# EAGLE library part MCP19119 (library Microchip)
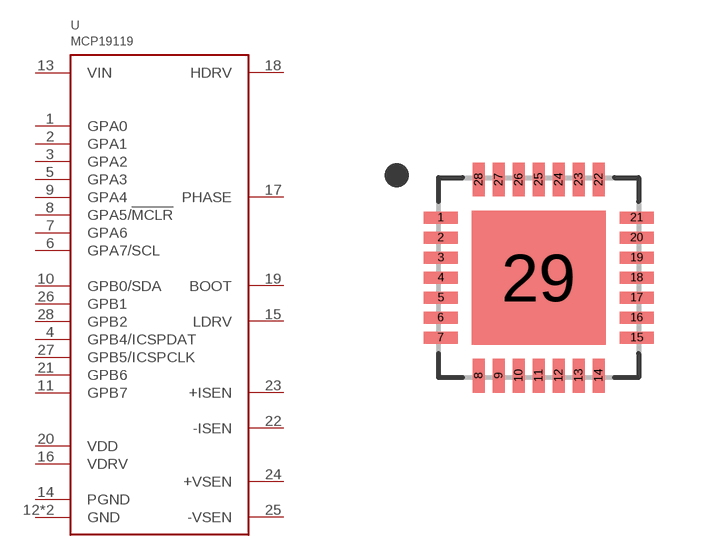
[diagram p61: symbol with the pads of VQFN28; footprint VQFN28]

Designator prefix -

## MCP19119  [VQFN28]
1  GPA0
2  GPA1
3  GPA2
4  GPB4/ICSPDAT
5  GPA3
6  GPA7/SCL
7  GPA6
8  GPA5/!MCLR
9  GPA4
10  GPB0/SDA
11  GPB7
12  GND
13  VIN
14  PGND
15  LDRV
16  VDRV
17  PHASE
18  HDRV
19  BOOT
20  VDD
21  GPB6
22  -ISEN
23  +ISEN
24  +VSEN
25  -VSEN
26  GPB1
27  GPB5/ICSPCLK
28  GPB2
29  GND

## Footprint VQFN28 (pad centres in mm)
smd 0.85 x 0.3: 1 -2.45,1.5; 2 -2.45,1; 3 -2.45,0.5; 4 -2.45,0; 5 -2.45,-0.5; 6 -2.45,-1; 7 -2.45,-1.5; 15 2.45,-1.5; 16 2.45,-1; 17 2.45,-0.5; 18 2.45,0; 19 2.45,0.5; 20 2.45,1; 21 2.45,1.5
smd 0.3 x 0.85: 8 -1.5,-2.45; 9 -1,-2.45; 10 -0.5,-2.45; 11 0,-2.45; 12 0.5,-2.45; 13 1,-2.45; 14 1.5,-2.45; 22 1.5,2.45; 23 1,2.45; 24 0.5,2.45; 25 0,2.45; 26 -0.5,2.45; 27 -1,2.45; 28 -1.5,2.45
smd 3.35 x 3.35: 29 0,0